# EAGLE library part DSPIC33FJ12GP202 (library @Club_Microchip_divers-)
dsPIC33 General DSC
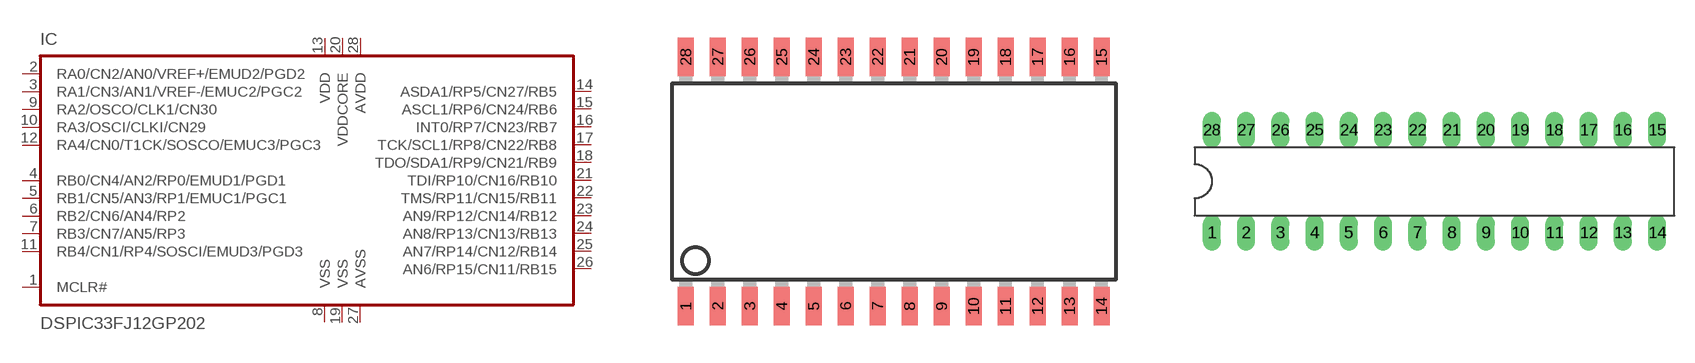
[diagram p50: symbol with the pads of SO-28W; footprints SO-28W, DIL28-3]

Designator prefix IC

## DSPIC33FJ12GP202/SO  [SO-28W]
1  MCLR#  in
2  RA0/CN2/AN0/VREF+/EMUD2/PGD2
3  RA1/CN3/AN1/VREF-/EMUC2/PGC2
4  RB0/CN4/AN2/RP0/EMUD1/PGD1
5  RB1/CN5/AN3/RP1/EMUC1/PGC1
6  RB2/CN6/AN4/RP2
7  RB3/CN7/AN5/RP3
8  VSS  pwr
9  RA2/OSCO/CLK1/CN30
10  RA3/OSCI/CLKI/CN29
11  RB4/CN1/RP4/SOSCI/EMUD3/PGD3
12  RA4/CN0/T1CK/SOSCO/EMUC3/PGC3
13  VDD  pwr
14  ASDA1/RP5/CN27/RB5
15  ASCL1/RP6/CN24/RB6
16  INT0/RP7/CN23/RB7
17  TCK/SCL1/RP8/CN22/RB8
18  TDO/SDA1/RP9/CN21/RB9
19  VSS  pwr
20  VDDCORE  pwr
21  TDI/RP10/CN16/RB10
22  TMS/RP11/CN15/RB11
23  AN9/RP12/CN14/RB12
24  AN8/RP13/CN13/RB13
25  AN7/RP14/CN12/RB14
26  AN6/RP15/CN11/RB15
27  AVSS  pwr
28  AVDD  pwr

## DSPIC33FJ12GP202/SP  [DIL28-3]
Pads as for SO-28W

## DSPIC33FJ12GP202/ML  [QFN-S28-6X6]
1  RB0/CN4/AN2/RP0/EMUD1/PGD1
2  RB1/CN5/AN3/RP1/EMUC1/PGC1
3  RB2/CN6/AN4/RP2
4  RB3/CN7/AN5/RP3
5  VSS  pwr
6  RA2/OSCO/CLK1/CN30
7  RA3/OSCI/CLKI/CN29
8  RB4/CN1/RP4/SOSCI/EMUD3/PGD3
9  RA4/CN0/T1CK/SOSCO/EMUC3/PGC3
10  VDD  pwr
11  ASDA1/RP5/CN27/RB5
12  ASCL1/RP6/CN24/RB6
13  INT0/RP7/CN23/RB7
14  TCK/SCL1/RP8/CN22/RB8
15  TDO/SDA1/RP9/CN21/RB9
16  VSS  pwr
17  VDDCORE  pwr
18  TDI/RP10/CN16/RB10
19  TMS/RP11/CN15/RB11
20  AN9/RP12/CN14/RB12
21  AN8/RP13/CN13/RB13
22  AN7/RP14/CN12/RB14
23  AN6/RP15/CN11/RB15
24  AVSS  pwr
25  AVDD  pwr
26  MCLR#  in
27  RA0/CN2/AN0/VREF+/EMUD2/PGD2
28  RA1/CN3/AN1/VREF-/EMUC2/PGC2

## Footprint SO-28W (pad centres in mm)
Small Outline Wide Plastic Gull Wing 300-mil body, package type SO
smd 0.635 x 1.524: 1 -7.62,-4.953; 2 -6.35,-4.953; 3 -5.08,-4.953; 4 -3.81,-4.953; 5 -2.54,-4.953; 6 -1.27,-4.953; 7 0,-4.953; 8 1.27,-4.953; 9 2.54,-4.953; 10 3.81,-4.953; 11 5.08,-4.953; 12 6.35,-4.953; 13 7.62,-4.953; 14 8.89,-4.953; 15 8.89,4.953; 16 7.62,4.953; 17 6.35,4.953; 18 5.08,4.953; 19 3.81,4.953; 20 2.54,4.953; 21 1.27,4.953; 22 0,4.953; 23 -1.27,4.953; 24 -2.54,4.953; 25 -3.81,4.953; 26 -5.08,4.953; 27 -6.35,4.953; 28 -7.62,4.953

## Footprint DIL28-3 (pad centres in mm)
Dual In Line package type P
drill 0.813 long: 1 -16.51,-3.81; 2 -13.97,-3.81; 3 -11.43,-3.81; 4 -8.89,-3.81; 5 -6.35,-3.81; 6 -3.81,-3.81; 7 -1.27,-3.81; 8 1.27,-3.81; 9 3.81,-3.81; 10 6.35,-3.81; 11 8.89,-3.81; 12 11.43,-3.81; 13 13.97,-3.81; 14 16.51,-3.81; 15 16.51,3.81; 16 13.97,3.81; 17 11.43,3.81; 18 8.89,3.81; 19 6.35,3.81; 20 3.81,3.81; 21 1.27,3.81; 22 -1.27,3.81; 23 -3.81,3.81; 24 -6.35,3.81; 25 -8.89,3.81; 26 -11.43,3.81; 27 -13.97,3.81; 28 -16.51,3.81

## Footprint QFN-S28-6X6 (pad centres in mm)
Quad Flat No Lead
smd 0.6 x 0.4: 1 2.75,-1.95; 2 2.75,-1.3; 3 2.75,-0.65; 4 2.75,0; 5 2.75,0.65; 6 2.75,1.3; 7 2.75,1.95; 15 -2.75,1.95; 16 -2.75,1.3; 17 -2.75,0.65; 18 -2.75,0; 19 -2.75,-0.65; 20 -2.75,-1.3; 21 -2.75,-1.95
smd 0.4 x 0.6: 8 1.95,2.75; 9 1.3,2.75; 10 0.65,2.75; 11 0,2.75; 12 -0.65,2.75; 13 -1.3,2.75; 14 -1.95,2.75; 22 -1.95,-2.75; 23 -1.3,-2.75; 24 -0.65,-2.75; 25 0,-2.75; 26 0.65,-2.75; 27 1.3,-2.75; 28 1.95,-2.75